# Altium schematic symbol library EPC 2Q2015.schlib: 37 symbols
Pins are listed as number, name and electrical type; pins without a type are passive.

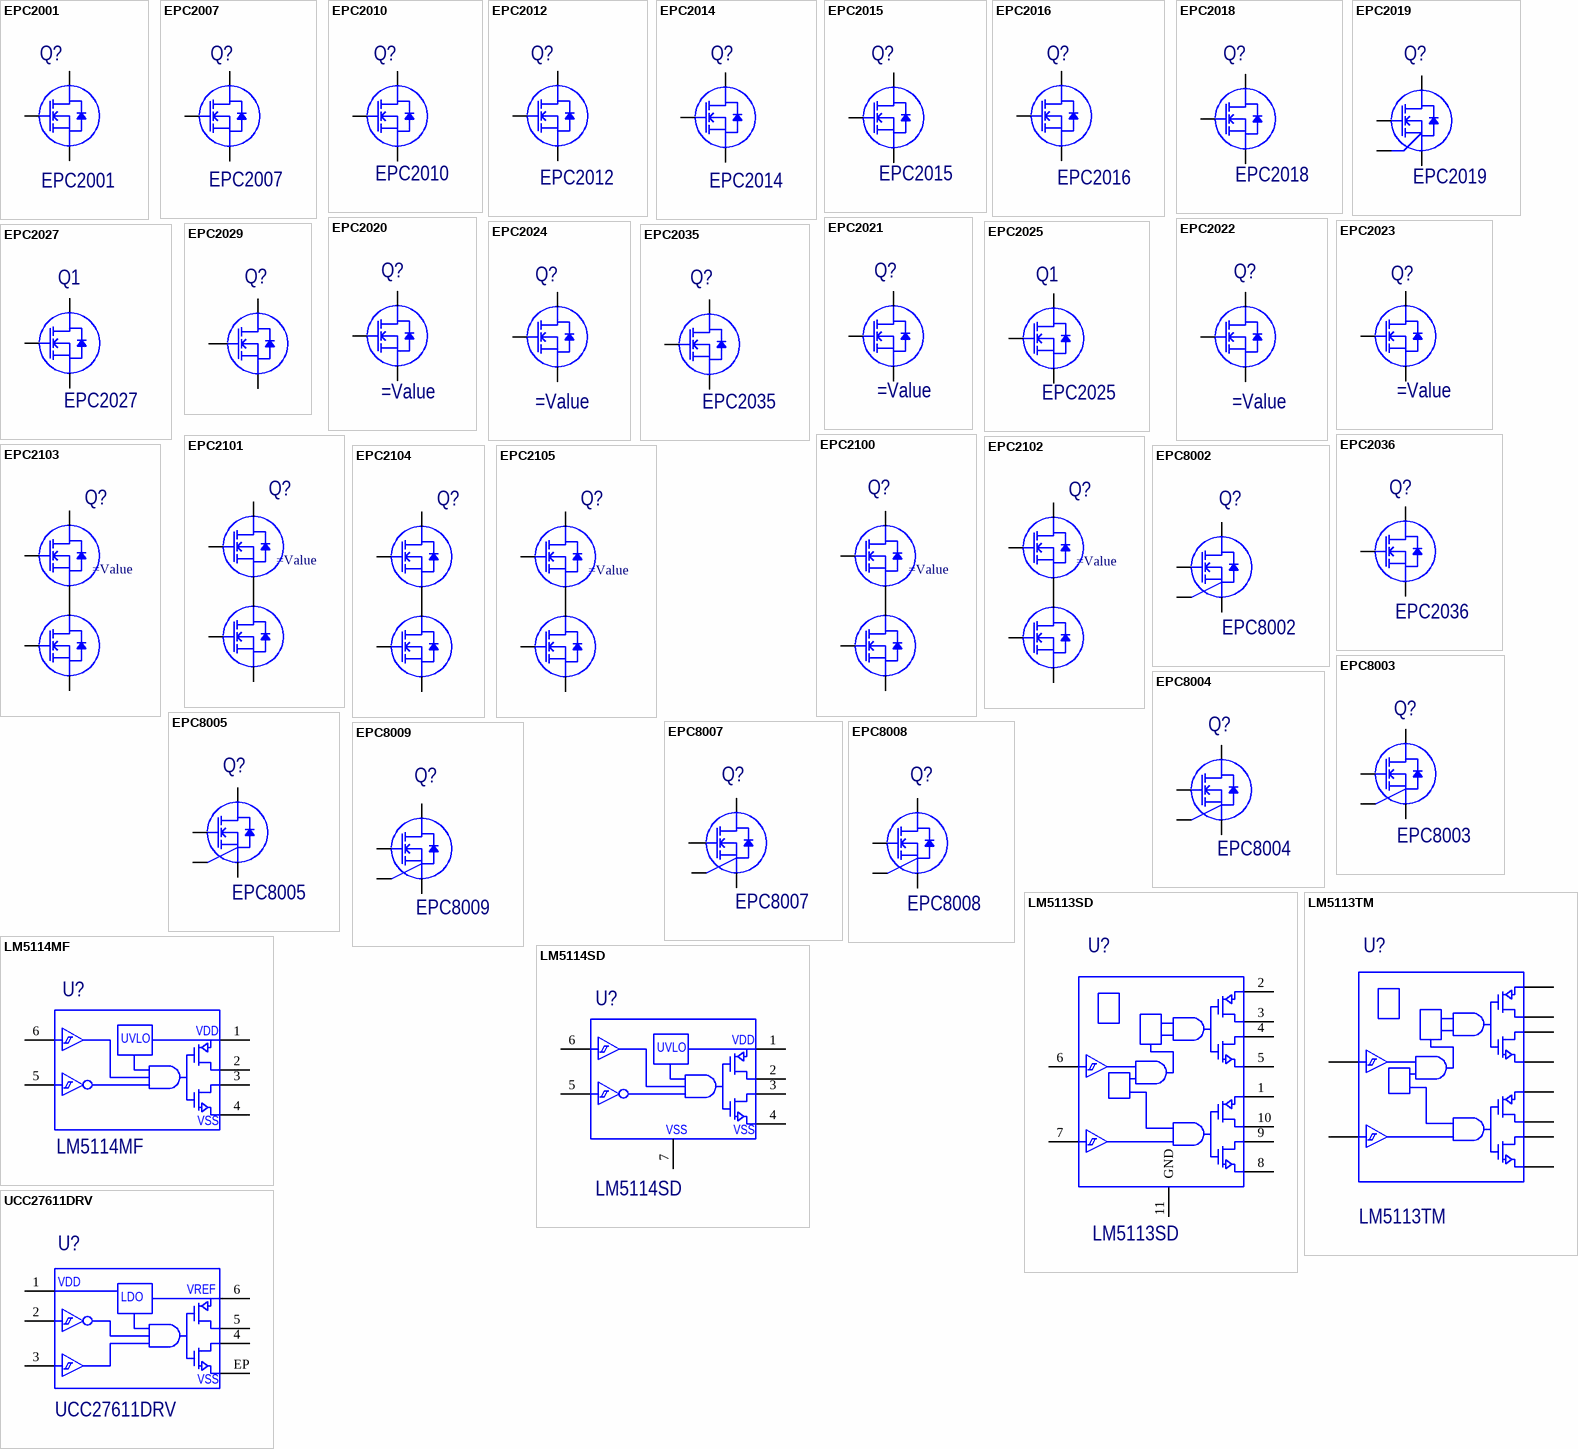
[diagram p0: symbols EPC2001 to UCC27611DRV]

## EPC2001
designator Q?
100V 25A 7mE
pins: 1 G, 2 SS (oe), 3 D1 (oc), 4 SP1 (oe), 5 D2 (oc), 6 SP2 (oe), 7 D3 (oc), 8 SP3 (oe), 9 D4 (oc), 10 SP4 (oe), 11 D5 (oc)

## EPC2007
designator Q?
100V 6A 30mE
pins: 1 G, 2 SS (oe), 3 D1 (oc), 4 SP1 (oe), 5 D2 (oc)

## EPC2010
designator Q?
200V 12A 25mE
pins: 1 G, 2 SS (oe), 3 D1 (oc), 4 SP1 (oe), 5 D2 (oc), 6 SP2 (oe), 7 D3 (oc)

## EPC2012
designator Q?
200V 3A 100mE
pins: 1 G, 2 SS (oe), 3 D (oc), 4 SP (oe)

## EPC2014
designator Q?
40V 10A 16mE
pins: 1 G, 2 SS (oe), 3 D1 (oc), 4 SP1 (oe), 5 D2 (oc)

## EPC2015
designator Q?
40V 33A 4mE
pins: 1 G, 2 SS (oe), 3 D1 (oc), 4 SP1 (oe), 5 D2 (oc), 6 SP2 (oe), 7 D3 (oc), 8 SP3 (oe), 9 D4 (oc), 10 SP4 (oe), 11 D5 (oc)

## EPC2016
designator Q?
100V 11A 16mE
pins: 1 G, 2 SS (oe), 3 D1 (oc), 4 SP1 (oe), 5 D2 (oc), 6 SP2 (oe)

## EPC2018
designator Q?
150V 12A 25mE
pins: 1 G, 2 SS (oe), 3 D1 (oc), 4 SP1 (oe), 5 D2 (oc), 6 SP2 (oe), 7 D3 (oc)

## EPC2019
designator Q?
200V 9A 43mE
pins: 1 G, 2 GR (oe), 3 D1 (oc), 4 SP1 (oe), 5 D2 (oc), 6 SP2 (oe), 7 Sub (oe)

## EPC2020
designator Q?
60V 60A 2.2mE
pins: 1 G, 2 S1 (oe), 3 D1 (oc), 4 D1 (oc), 5 S1 (oe), 6 S1 (oe), 7 D1 (oc), 8 D1 (oc), 9 S1 (oe), 10 S1 (oe), 11 D1 (oc), 12 D1 (oc), 13 S1 (oe), 14 S1 (oe), 15 D1 (oc), 16 D1 (oc), 17 S1 (oe), 18 S1 (oe), 19 D1 (oc), 20 D1 (oc), 21 S1 (oe), 22 S1 (oe), 23 D1 (oc), 24 D1 (oc), 25 S1 (oe), 26 S1 (oe), 27 D1 (oc), 28 D1 (oc), 29 S1 (oe), 30 SS (oe)

## EPC2021
designator Q?
80V 60A 2.5mE
pins: 1 G, 2 S1 (oe), 3 D1 (oc), 4 D1 (oc), 5 S1 (oe), 6 S1 (oe), 7 D1 (oc), 8 D1 (oc), 9 S1 (oe), 10 S1 (oe), 11 D1 (oc), 12 D1 (oc), 13 S1 (oe), 14 S1 (oe), 15 D1 (oc), 16 D1 (oc), 17 S1 (oe), 18 S1 (oe), 19 D1 (oc), 20 D1 (oc), 21 S1 (oe), 22 S1 (oe), 23 D1 (oc), 24 D1 (oc), 25 S1 (oe), 26 S1 (oe), 27 D1 (oc), 28 D1 (oc), 29 S1 (oe), 30 SS (oe)

## EPC2022
designator Q?
100V 60A 3.2mE
pins: 1 G, 2 S1 (oe), 3 D1 (oc), 4 D1 (oc), 5 S1 (oe), 6 S1 (oe), 7 D1 (oc), 8 D1 (oc), 9 S1 (oe), 10 S1 (oe), 11 D1 (oc), 12 D1 (oc), 13 S1 (oe), 14 S1 (oe), 15 D1 (oc), 16 D1 (oc), 17 S1 (oe), 18 S1 (oe), 19 D1 (oc), 20 D1 (oc), 21 S1 (oe), 22 S1 (oe), 23 D1 (oc), 24 D1 (oc), 25 S1 (oe), 26 S1 (oe), 27 D1 (oc), 28 D1 (oc), 29 S1 (oe), 30 SS (oe)

## EPC2023
designator Q?
30V 60A 1.3mE
pins: 1 G, 2 S1 (oe), 3 D1 (oc), 4 D1 (oc), 5 S1 (oe), 6 S1 (oe), 7 D1 (oc), 8 D1 (oc), 9 S1 (oe), 10 S1 (oe), 11 D1 (oc), 12 D1 (oc), 13 S1 (oe), 14 S1 (oe), 15 D1 (oc), 16 D1 (oc), 17 S1 (oe), 18 S1 (oe), 19 D1 (oc), 20 D1 (oc), 21 S1 (oe), 22 S1 (oe), 23 D1 (oc), 24 D1 (oc), 25 S1 (oe), 26 S1 (oe), 27 D1 (oc), 28 D1 (oc), 29 S1 (oe), 30 SS (oe)

## EPC2024
designator Q?
40V 60A 1.5mE
pins: 1 G, 2 S1 (oe), 3 D1 (oc), 4 D1 (oc), 5 S1 (oe), 6 S1 (oe), 7 D1 (oc), 8 D1 (oc), 9 S1 (oe), 10 S1 (oe), 11 D1 (oc), 12 D1 (oc), 13 S1 (oe), 14 S1 (oe), 15 D1 (oc), 16 D1 (oc), 17 S1 (oe), 18 S1 (oe), 19 D1 (oc), 20 D1 (oc), 21 S1 (oe), 22 S1 (oe), 23 D1 (oc), 24 D1 (oc), 25 S1 (oe), 26 S1 (oe), 27 D1 (oc), 28 D1 (oc), 29 S1 (oe), 30 SS (oe)

## EPC2025
designator Q1
300V 4A 150mE
pins: 1 G, 2 SS (oe), 3 SP2 (oe), 4 SP1 (oe), 5 D2 (oc), 6 D1 (oc), 7 D3 (oc), 8 D4 (oc), 9 SP3 (oe), 10 SP4 (oe), 11 SP3 (oe), 12 SP3 (oe)

## EPC2027
designator Q1
450V 4A 400mE
pins: 1 G, 2 SS (oe), 3 SP2 (oe), 4 SP1 (oe), 5 D2 (oc), 6 D1 (oc), 7 D3 (oc), 8 D4 (oc), 9 SP3 (oe), 10 SP4 (oe), 11 SP3 (oe), 12 SP3 (oe)

## EPC2029
designator Q?  (value not drawn)
80V 3.2mE
pins: 1 G, 2 G, 3 SS1 (oe), 3 G, 4 SS2 (oe), 5 D1 (oc), 6 D2 (oc), 7 D3 (oc), 8 D4 (oc), 9 D5 (oc), 10 SP1 (oe), 11 SP2 (oe), 12 SP3 (oe), 13 SP4 (oe), 14 SP5 (oe), 15 D6 (oc), 16 D7 (oc), 17 D8 (oc), 18 D9 (oc), 19 D10 (oc), 20 SP6 (oe), 21 SP7 (oe), 22 SP8 (oe), 23 SP9 (oe), 24 SP10 (oe)

## EPC2035
designator Q?
60V 45mE
pins: 1 G, 2 SS (oe), 3 D1 (oc), 4 SP1 (oe)

## EPC2036
designator Q?
100V 65mE
pins: 1 G, 2 SS (oe), 3 D1 (oc), 4 SP1 (oe)

## EPC2100
designator Q?
30V 1:4 HB
pins: 1 D1 (oc), 2 G1, 3 SR, 4 G2, 5 S2 (oe), 6 S1 (oe), 7 D2 (oc), 8 D2 (oc), 9 D2 (oc), 10 D2 (oc), 11 D1 (oc), 12 S2 (oe), 13 S2 (oe), 14 S2 (oe), 15 S2 (oe), 16 S1 (oe), 17 D2 (oc), 18 D2 (oc), 19 D2 (oc), 20 D2 (oc), 21 D1 (oc), 22 S2 (oe), 23 S2 (oe), 24 S2 (oe), 25 S2 (oe), 26 S1 (oe), 27 D2 (oc), 28 D2 (oc), 29 D2 (oc), 30 D2 (oc), 31 D1 (oc), 32 S2 (oe), 33 S2 (oe), 34 S2 (oe), 35 S2 (oe), 36 S1 (oe), 37 D2 (oc), 38 D2 (oc), 39 D2 (oc), 40 D2 (oc), 41 D1 (oc), 42 S2 (oe), 43 S2 (oe), 44 S2 (oe), 45 S2 (oe), 46 S1 (oe), 47 D2 (oc), 48 D2 (oc), 49 D2 (oc), 50 D2 (oc), 51 D1 (oc), 52 S2 (oe), 53 S2 (oe), 54 S2 (oe), 55 S2 (oe), 56 S1 (oe), 57 D2 (oc), 58 D2 (oc), 59 D2 (oc), 60 D2 (oc), 61 D1 (oc), 62 S2 (oe), 63 S2 (oe), 64 S2 (oe), 65 S2 (oe), 66 S1 (oe), 67 D2 (oc), 68 D2 (oc), 69 D2 (oc), 70 D2 (oc), 71 D1 (oc), 72 S2 (oe), 73 S2 (oe), 74 S2 (oe), 75 S2 (oe)

## EPC2101
designator Q?
60V 1:4 HB
pins: 1 D1 (oc), 2 G1, 3 SR, 4 G2, 5 S2 (oe), 6 S1 (oe), 7 D2 (oc), 8 D2 (oc), 9 D2 (oc), 10 D2 (oc), 11 D1 (oc), 12 S2 (oe), 13 S2 (oe), 14 S2 (oe), 15 S2 (oe), 16 S1 (oe), 17 D2 (oc), 18 D2 (oc), 19 D2 (oc), 20 D2 (oc), 21 D1 (oc), 22 S2 (oe), 23 S2 (oe), 24 S2 (oe), 25 S2 (oe), 26 S1 (oe), 27 D2 (oc), 28 D2 (oc), 29 D2 (oc), 30 D2 (oc), 31 D1 (oc), 32 S2 (oe), 33 S2 (oe), 34 S2 (oe), 35 S2 (oe), 36 S1 (oe), 37 D2 (oc), 38 D2 (oc), 39 D2 (oc), 40 D2 (oc), 41 D1 (oc), 42 S2 (oe), 43 S2 (oe), 44 S2 (oe), 45 S2 (oe), 46 S1 (oe), 47 D2 (oc), 48 D2 (oc), 49 D2 (oc), 50 D2 (oc), 51 D1 (oc), 52 S2 (oe), 53 S2 (oe), 54 S2 (oe), 55 S2 (oe), 56 S1 (oe), 57 D2 (oc), 58 D2 (oc), 59 D2 (oc), 60 D2 (oc), 61 D1 (oc), 62 S2 (oe), 63 S2 (oe), 64 S2 (oe), 65 S2 (oe), 66 S1 (oe), 67 D2 (oc), 68 D2 (oc), 69 D2 (oc), 70 D2 (oc), 71 D1 (oc), 72 S2 (oe), 73 S2 (oe), 74 S2 (oe), 75 S2 (oe)

## EPC2102
designator Q?
60V 1:1 HB
pins: 1 D1 (oc), 2 G1, 3 SR, 4 G2, 5 S2 (oe), 6 S1 (oe), 7 S1 (oc), 8 S1 (oc), 9 D2 (oc), 10 D2 (oc), 11 D1 (oc), 12 D1 (oe), 13 D1 (oe), 14 S2 (oe), 15 S2 (oe), 16 S1 (oe), 17 S1 (oc), 18 S1 (oc), 19 D2 (oc), 20 D2 (oc), 21 D1 (oc), 22 D1 (oe), 23 D1 (oe), 24 S2 (oe), 25 S2 (oe), 26 S1 (oe), 27 S1 (oc), 28 S1 (oc), 29 D2 (oc), 30 D2 (oc), 31 D1 (oc), 32 D1 (oe), 33 D1 (oe), 34 S2 (oe), 35 S2 (oe), 36 S1 (oe), 37 S1 (oc), 38 S1 (oc), 39 D2 (oc), 40 D2 (oc), 41 D1 (oc), 42 D1 (oe), 43 S2 (oe), 44 S2 (oe), 45 S2 (oe), 46 S1 (oe), 47 S1 (oc), 48 S1 (oc), 49 D2 (oc), 50 D2 (oc), 51 D1 (oc), 52 D1 (oe), 53 S2 (oe), 54 S2 (oe), 55 S2 (oe), 56 S1 (oe), 57 S1 (oc), 58 S1 (oc), 59 D2 (oc), 60 D2 (oc), 61 D1 (oc), 62 D1 (oe), 63 S2 (oe), 64 S2 (oe), 65 S2 (oe), 66 S1 (oe), 67 S1 (oc), 68 S1 (oc), 69 D2 (oc), 70 D2 (oc), 71 D1 (oc), 72 D1 (oe), 73 S2 (oe), 74 S2 (oe), 75 S2 (oe)

## EPC2103
designator Q?
80V 1:1 HB
pins: 1 D1 (oc), 2 G1, 3 SR, 4 G2, 5 S2 (oe), 6 S1 (oe), 7 S1 (oc), 8 S1 (oc), 9 D2 (oc), 10 D2 (oc), 11 D1 (oc), 12 D1 (oe), 13 D1 (oe), 14 S2 (oe), 15 S2 (oe), 16 S1 (oe), 17 S1 (oc), 18 S1 (oc), 19 D2 (oc), 20 D2 (oc), 21 D1 (oc), 22 D1 (oe), 23 D1 (oe), 24 S2 (oe), 25 S2 (oe), 26 S1 (oe), 27 S1 (oc), 28 S1 (oc), 29 D2 (oc), 30 D2 (oc), 31 D1 (oc), 32 D1 (oe), 33 D1 (oe), 34 S2 (oe), 35 S2 (oe), 36 S1 (oe), 37 S1 (oc), 38 S1 (oc), 39 D2 (oc), 40 D2 (oc), 41 D1 (oc), 42 D1 (oe), 43 S2 (oe), 44 S2 (oe), 45 S2 (oe), 46 S1 (oe), 47 S1 (oc), 48 S1 (oc), 49 D2 (oc), 50 D2 (oc), 51 D1 (oc), 52 D1 (oe), 53 S2 (oe), 54 S2 (oe), 55 S2 (oe), 56 S1 (oe), 57 S1 (oc), 58 S1 (oc), 59 D2 (oc), 60 D2 (oc), 61 D1 (oc), 62 D1 (oe), 63 S2 (oe), 64 S2 (oe), 65 S2 (oe), 66 S1 (oe), 67 S1 (oc), 68 S1 (oc), 69 D2 (oc), 70 D2 (oc), 71 D1 (oc), 72 D1 (oe), 73 S2 (oe), 74 S2 (oe), 75 S2 (oe)

## EPC2104
designator Q?
100V 1:1 HB
pins: 1 D1 (oc), 2 G1, 3 SR, 4 G2, 5 S2 (oe), 6 S1 (oe), 7 S1 (oc), 8 S1 (oc), 9 D2 (oc), 10 D2 (oc), 11 D1 (oc), 12 D1 (oe), 13 D1 (oe), 14 S2 (oe), 15 S2 (oe), 16 S1 (oe), 17 S1 (oc), 18 S1 (oc), 19 D2 (oc), 20 D2 (oc), 21 D1 (oc), 22 D1 (oe), 23 D1 (oe), 24 S2 (oe), 25 S2 (oe), 26 S1 (oe), 27 S1 (oc), 28 S1 (oc), 29 D2 (oc), 30 D2 (oc), 31 D1 (oc), 32 D1 (oe), 33 D1 (oe), 34 S2 (oe), 35 S2 (oe), 36 S1 (oe), 37 S1 (oc), 38 S1 (oc), 39 D2 (oc), 40 D2 (oc), 41 D1 (oc), 42 D1 (oe), 43 S2 (oe), 44 S2 (oe), 45 S2 (oe), 46 S1 (oe), 47 S1 (oc), 48 S1 (oc), 49 D2 (oc), 50 D2 (oc), 51 D1 (oc), 52 D1 (oe), 53 S2 (oe), 54 S2 (oe), 55 S2 (oe), 56 S1 (oe), 57 S1 (oc), 58 S1 (oc), 59 D2 (oc), 60 D2 (oc), 61 D1 (oc), 62 D1 (oe), 63 S2 (oe), 64 S2 (oe), 65 S2 (oe), 66 S1 (oe), 67 S1 (oc), 68 S1 (oc), 69 D2 (oc), 70 D2 (oc), 71 D1 (oc), 72 D1 (oe), 73 S2 (oe), 74 S2 (oe), 75 S2 (oe)

## EPC2105
designator Q?
80V 1:4 HB
pins: 1 D1 (oc), 2 G1, 3 SR, 4 G2, 5 S2 (oe), 6 S1 (oe), 7 D2 (oc), 8 D2 (oc), 9 D2 (oc), 10 D2 (oc), 11 D1 (oc), 12 S2 (oe), 13 S2 (oe), 14 S2 (oe), 15 S2 (oe), 16 S1 (oe), 17 D2 (oc), 18 D2 (oc), 19 D2 (oc), 20 D2 (oc), 21 D1 (oc), 22 S2 (oe), 23 S2 (oe), 24 S2 (oe), 25 S2 (oe), 26 S1 (oe), 27 D2 (oc), 28 D2 (oc), 29 D2 (oc), 30 D2 (oc), 31 D1 (oc), 32 S2 (oe), 33 S2 (oe), 34 S2 (oe), 35 S2 (oe), 36 S1 (oe), 37 D2 (oc), 38 D2 (oc), 39 D2 (oc), 40 D2 (oc), 41 D1 (oc), 42 S2 (oe), 43 S2 (oe), 44 S2 (oe), 45 S2 (oe), 46 S1 (oe), 47 D2 (oc), 48 D2 (oc), 49 D2 (oc), 50 D2 (oc), 51 D1 (oc), 52 S2 (oe), 53 S2 (oe), 54 S2 (oe), 55 S2 (oe), 56 S1 (oe), 57 D2 (oc), 58 D2 (oc), 59 D2 (oc), 60 D2 (oc), 61 D1 (oc), 62 S2 (oe), 63 S2 (oe), 64 S2 (oe), 65 S2 (oe), 66 S1 (oe), 67 D2 (oc), 68 D2 (oc), 69 D2 (oc), 70 D2 (oc), 71 D1 (oc), 72 S2 (oe), 73 S2 (oe), 74 S2 (oe), 75 S2 (oe)

## EPC8002
designator Q?
65V 2A 530m
pins: 1 G, 2 SG (oe), 3 SP1 (oe), 4 D (oc), 5 SP2 (oe), 6 SB (oe)

## EPC8003
designator Q?
100V 2.5A 300m
pins: 1 G, 2 SG (oe), 3 SP1 (oe), 4 D (oc), 5 SP2 (oe), 6 SB (oe)

## EPC8004
designator Q?
40V 4.4A 125m
pins: 1 G, 2 SG (oe), 3 SP1 (oe), 4 D (oc), 5 SP2 (oe), 6 SB (oe)

## EPC8005
designator Q?
65V 2.9A 275m
pins: 1 G, 2 SG (oe), 3 SP1 (oe), 4 D (oc), 5 SP2 (oe), 6 SB (oe)

## EPC8007
designator Q?
40V 3.8A 160m
pins: 1 G, 2 SG (oe), 2 G, 3 SP1 (oe), 4 D (oc), 5 SP2 (oe), 6 SB (oe)

## EPC8008
designator Q?
40V 2.7A 325m
pins: 1 G, 2 SG (oe), 3 SP1 (oe), 4 D (oc), 5 SP2 (oe), 6 SB (oe)

## EPC8009
designator Q?
65V 4.1A 138m
pins: 1 G, 2 SG (oe), 3 SP1 (oe), 4 D (oc), 5 SP2 (oe), 6 SB (oe)

## LM5113SD
designator U?
eGaN 100V Half Bridge Gate Driver
pins: 1 VDD, 2 HB, 3 HOH, 4 HOL, 5 HS, 6 Hin, 7 Lin, 8 VSS, 9 LOL, 10 LOH, 11 GND

## LM5113TM
designator U?
eGaN 100V Half Bridge Gate Driver
pins: A1 LOL, A2 VSS, A3 VDD, A4 Lin, B1 LOH, B4 Hin, C1 HS, C4 VDD, D1 HOL, D2 HOH, D3 HB, D4 HS

## LM5114MF
designator U?
eGaN Gate Driver
pins: 1 VDD, 2 Pout, 3 Nout, 4 VSS, 5 INB, 6 IN
text: UVLO

## LM5114SD
designator U?
eGaN Gate Driver
pins: 1 VDD, 2 Pout, 3 Nout, 4 VSS, 5 INB, 6 IN, 7 GND
text: UVLO

## UCC27611DRV
designator U?
eGaN Gate Driver with LDO
pins: 1 VDD, 2 INB, 3 IN, 4 Nout, 5 Pout, 6 VREF, EP VSS
text: LDO